# Altium footprint library SQJ148EPT1_GE3.PcbLib: 1 footprints
Each footprint in its own frame and in the unit in brackets; x right, y up, seen from the top. Pads: shape width x height; smd on the part's side, far side on the other; paste and mask are expansions set on the pad; w line width, h text height; cw(c..) or ccw(c..) is an arc to the next point about the centre after c.
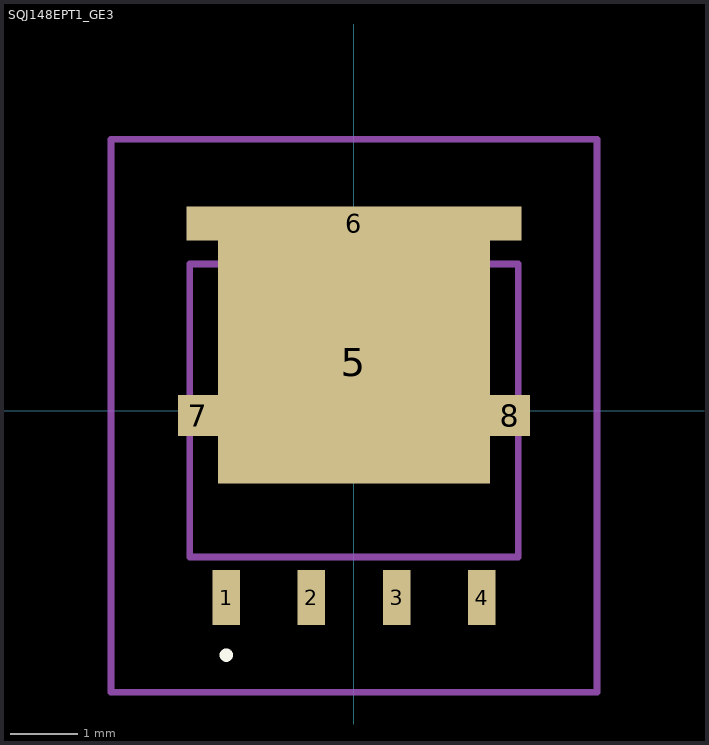
[diagram p0: the footprint, top view; thin cyan lines are the x and y axes]

## SQJ148EPT1_GE3 [mm]
pads (8):
  rect 0.41x0.82 smd: 1(-1.905,-2.793) 2(-0.635,-2.793) 3(0.635,-2.793) 4(1.905,-2.793)
  rect 4.061x3.63 smd: 5(0,0.723)
  rect 5x0.51 smd: 6(0,2.793)
  rect 0.595x0.61 smd: 7(-2.328,-0.077) 8(2.328,-0.077)
Top Overlay:
  lines w0.1: -1.905,-3.7 cw(c-1.905,-3.65) -1.905,-3.6 ; -1.905,-3.7 -1.905,-3.7 ; -1.905,-3.7 ccw(c-1.905,-3.65) -1.905,-3.6 ; -1.905,-3.6 -1.905,-3.6
Mechanical 15:
  lines w0.1: -2.45,-2.185 2.45,-2.185 2.45,2.185 -2.45,2.185 -2.45,-2.185
Mechanical 20:
  lines w0.1: -3.625,-4.203 3.626,-4.203 3.626,4.048 -3.625,4.048 -3.625,-4.203